# Altium footprint library misc.PcbLib: 5 footprints
Each footprint in its own frame and in the unit in brackets; x right, y up, seen from the top. Pads: shape width x height; smd on the part's side, far side on the other; paste and mask are expansions set on the pad; w line width, h text height; cw(c..) or ccw(c..) is an arc to the next point about the centre after c.
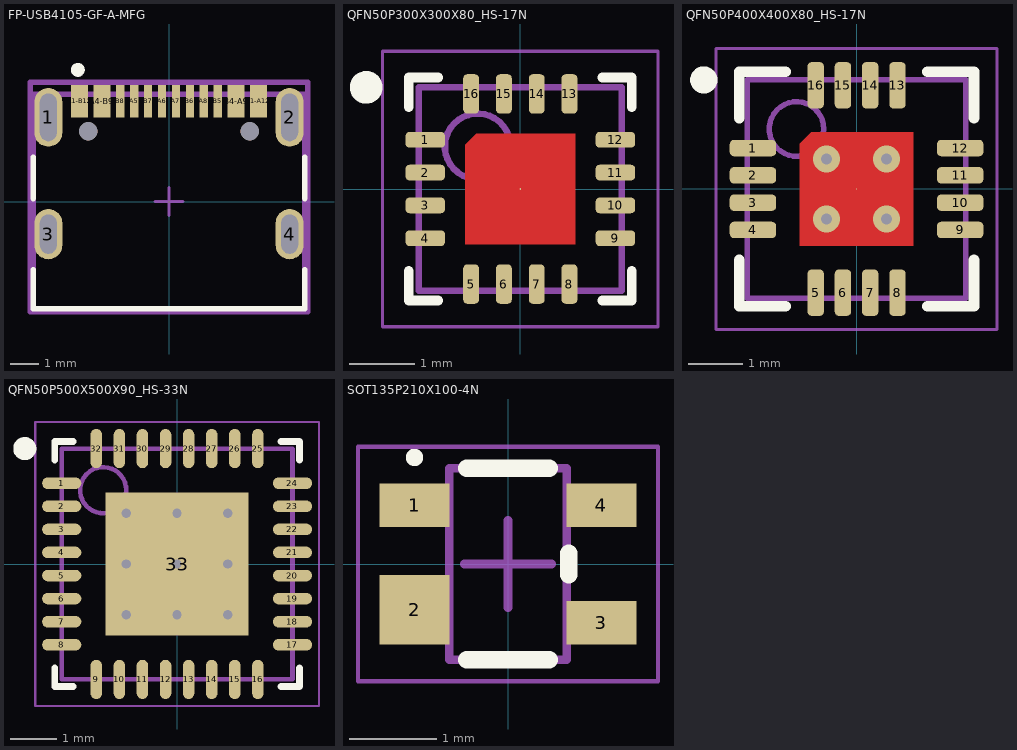
[diagram p0: the footprints below, top view; thin cyan lines are the x and y axes]

## FP-USB4105-GF-A-MFG [mm]
pads (18):
  rrect100% 1x2.1 hole 1.7 slot 0.6 at 0 deg paste-2539.97 mask+0: 1(-4.32,3.015) 2(4.32,3.015)
  rrect100% 1x1.8 hole 1.4 slot 0.6 at 0 deg paste-2539.97 mask+0: 3(-4.32,-1.165) 4(4.32,-1.165)
  rect 0.6x1.15 smd paste+0 mask+0: A1-B12(-3.2,3.59) A4-B9(-2.4,3.59) B1-A12(3.2,3.59) B4-A9(2.4,3.59)
  rect 0.3x1.15 smd paste+0 mask+0: A5(-1.25,3.59) A6(-0.25,3.59) A7(0.25,3.59) A8(1.25,3.59) B5(1.75,3.59) B6(0.75,3.59) B7(-0.75,3.59) B8(-1.75,3.59)
  round 0.65 hole 0.65 unplated paste-2539.97 mask+0: ""(-2.89,2.515) ""(2.89,2.515)
Top Overlay:
  circle w0.25: c-3.265,4.715 r0.125
  lines w0.2: -4.865,-2.44 -4.865,-3.84 4.865,-3.84 4.865,-2.44 ; -4.865,0.11 -4.865,1.59 ; 4.865,0.11 4.865,1.59
Top 3D Body:
  lines w0.2: -4.865,-3.84 -4.865,3.84 4.865,3.84 4.865,-3.84 -4.865,-3.84
Top Courtyard:
  lines w0.2: -4.965,-3.94 -4.965,4.265 4.965,4.265 4.965,-3.94 -4.965,-3.94
Top Assembly:
  lines w0.2: -4.965,-3.94 -4.965,4.265 4.965,4.265 4.965,-3.94 -4.965,-3.94
  text ".Designator" at 0,0.35 h1
Top Component Center:
  lines w0.1: -0.5,0 0.5,0 ; 0,-0.5 0,0.5
3D body "Conn_GCT_USB4105-GF-A_eec.STEP": height 0.25, standoff 0, extent -4.965,-3.94 4.965,4.265

## QFN50P300X300X80_HS-17N [mm] "QFN, 16-Leads, Body 3,00x3,00mm, Pitch 0,50mm, Thermal Pad 1,68x1,68mm, IPC Medium Density"
height 0.8
pads (17):
  rrect50% 0.6x0.24 smd: 1(-1.45,0.75) 2(-1.45,0.25) 3(-1.45,-0.25) 4(-1.45,-0.75) 9(1.45,-0.75) 10(1.45,-0.25) 11(1.45,0.25) 12(1.45,0.75)
  rrect50% 0.24x0.6 smd: 5(-0.75,-1.45) 6(-0.25,-1.45) 7(0.25,-1.45) 8(0.75,-1.45) 13(0.75,1.45) 14(0.25,1.45) 15(-0.25,1.45) 16(-0.75,1.45)
  round 0.025 smd: 17(0,0)
Top Layer:
  region: 0.84,-0.84 -0.84,-0.84 -0.84,0.672 -0.672,0.84 0.84,0.84
Top Overlay:
  circle w0.25: c-2.35,1.55 r0.125
  lines w0.15: -1.7,-1.25 -1.7,-1.7 -1.25,-1.7 ; -1.7,1.25 -1.7,1.7 -1.25,1.7 ; 1.25,-1.7 1.7,-1.7 1.7,-1.25 ; 1.25,1.7 1.7,1.7 1.7,1.25
Mechanical 13:
  circle w0.1: c-0.65,0.65 r0.5
  lines w0.1: -1.55,-1.55 1.55,-1.55 1.55,1.55 -1.55,1.55 -1.55,-1.55
Mechanical 15:
  lines w0.05: -2.1,-2.1 2.1,-2.1 2.1,2.1 -2.1,2.1 -2.1,-2.1
  lines w0.1: -0.5,0 0.5,0 ; 0,-0.5 0,0.5
3D body "QFN50P300X300X80_HS-17N.step": height 0.8, standoff 0, extent -1.56,-1.56 1.56,1.56

## QFN50P400X400X80_HS-17N [mm] "QFN, 16-Leads, Body 4,00x4,00mm, Pitch 0,50mm, Thermal Pad 2,08x2,08mm, IPC Medium Density"
height 0.8
pads (17):
  rrect50% 0.85x0.3 smd mask+0.05: 1(-1.9,0.75) 2(-1.9,0.25) 3(-1.9,-0.25) 4(-1.9,-0.75) 9(1.9,-0.75) 10(1.9,-0.25) 11(1.9,0.25) 12(1.9,0.75)
  rrect50% 0.3x0.85 smd mask+0.05: 5(-0.75,-1.9) 6(-0.25,-1.9) 7(0.25,-1.9) 8(0.75,-1.9) 13(0.75,1.9) 14(0.25,1.9) 15(-0.25,1.9) 16(-0.75,1.9)
  round 0.025 smd paste-0.4 mask+0.05: 17(0,0)
via 0.55,-0.55 diameter 0.5 hole 0.2
via -0.55,-0.55 diameter 0.5 hole 0.2
via 0.55,0.55 diameter 0.5 hole 0.2
via -0.55,0.55 diameter 0.5 hole 0.2
Top Layer:
  region: 1.04,-1.04 -1.04,-1.04 -1.04,0.832 -0.832,1.04 1.04,1.04
Top Overlay:
  circle w0.25: c-2.8,2 r0.125
  lines w0.2: -2.15,-1.3 -2.15,-2.15 -1.3,-2.15 ; -2.15,1.3 -2.15,2.15 -1.3,2.15 ; 1.3,-2.15 2.15,-2.15 2.15,-1.3 ; 1.3,2.15 2.15,2.15 2.15,1.3
Mechanical 13:
  circle w0.1: c-1.1,1.1 r0.5
  lines w0.1: -2,-2 2,-2 2,2 -2,2 -2,-2
Mechanical 15:
  lines w0.05: -2.575,-2.575 2.575,-2.575 2.575,2.575 -2.575,2.575 -2.575,-2.575
  lines w0.1: -0.5,0 0.5,0 ; 0,-0.5 0,0.5
3D body "QFN50P400X400X80_HS-17N.step": height 0.8, standoff 0, extent -2.01,-2.01 2.01,2.01

## QFN50P500X500X90_HS-33N [mm] "QFN, 32-Leads, Body 5,00x5,00mm, Pitch 0,50mm, Thermal Pad 3,10x3,10mm, IPC Medium Density"
height 0.9
pads (33):
  oval 0.85x0.25 smd: 1(-2.5,1.75) 2(-2.5,1.25) 3(-2.5,0.75) 4(-2.5,0.25) 5(-2.5,-0.25) 6(-2.5,-0.75) 7(-2.5,-1.25) 8(-2.5,-1.75) 17(2.5,-1.75) 18(2.5,-1.25) 19(2.5,-0.75) 20(2.5,-0.25) 21(2.5,0.25) 22(2.5,0.75) 23(2.5,1.25) 24(2.5,1.75)
  oval 0.25x0.85 smd: 9(-1.75,-2.5) 10(-1.25,-2.5) 11(-0.75,-2.5) 12(-0.25,-2.5) 13(0.25,-2.5) 14(0.75,-2.5) 15(1.25,-2.5) 16(1.75,-2.5) 25(1.75,2.5) 26(1.25,2.5) 27(0.75,2.5) 28(0.25,2.5) 29(-0.25,2.5) 30(-0.75,2.5) 31(-1.25,2.5) 32(-1.75,2.5)
  rect 3.1x3.1 smd: 33(0,0)
via 1.1,-1.1 diameter 0.5 hole 0.2
via 0,-1.1 diameter 0.5 hole 0.2
via -1.1,-1.1 diameter 0.5 hole 0.2
via 1.1,0 diameter 0.5 hole 0.2
via 0,0 diameter 0.5 hole 0.2
via -1.1,0 diameter 0.5 hole 0.2
via 1.1,1.1 diameter 0.5 hole 0.2
via 0,1.1 diameter 0.5 hole 0.2
via -1.1,1.1 diameter 0.5 hole 0.2
Top Overlay:
  circle w0.25: c-3.3,2.5 r0.125
  lines w0.15: -2.65,-2.25 -2.65,-2.65 -2.25,-2.65 ; -2.65,2.25 -2.65,2.65 -2.25,2.65 ; 2.25,-2.65 2.65,-2.65 2.65,-2.25 ; 2.25,2.65 2.65,2.65 2.65,2.25
Mechanical 13:
  circle w0.1: c-1.6,1.6 r0.5
  lines w0.1: -2.5,-2.5 2.5,-2.5 2.5,2.5 -2.5,2.5 -2.5,-2.5
Mechanical 15:
  lines w0.05: -3.075,-3.075 3.075,-3.075 3.075,3.075 -3.075,3.075 -3.075,-3.075
  lines w0.1: -0.5,0 0.5,0 ; 0,-0.5 0,0.5
3D body "QFN50P500X500X90_HS-33N.step": height 0.9, standoff 0, extent -2.51,-2.51 2.51,2.51

## SOT135P210X100-4N [mm] "SOT343, 4-Leads, Body 2,00x2,10mm, Pitch 1,35mm, IPC Medium Density"
height 1
pads (4):
  rect 0.8x0.5 smd: 1(-1.075,0.675) 3(1.075,-0.675) 4(1.075,0.675)
  rect 0.8x0.8 smd: 2(-1.075,-0.525)
Top Overlay:
  circle w0.1: c-1.075,1.225 r0.05
  lines w0.2: -0.475,-1.1 0.475,-1.1 ; -0.475,1.1 0.475,1.1 ; 0.7,-0.125 0.7,0.125
Mechanical 13:
  lines w0.1: -0.675,-1.1 0.675,-1.1 0.675,1.1 -0.675,1.1 -0.675,-1.1
Mechanical 15:
  lines w0.05: -1.725,-1.35 1.725,-1.35 1.725,1.35 -1.725,1.35 -1.725,-1.35
  lines w0.1: -0.5,0 0.5,0 ; 0,-0.5 0,0.5
3D body "SOT135P210X100-4N.step": height 1, standoff 0, extent -1.175,-1.1 1.175,1.1